# EAGLE library part RXM-GPS-RM (library linxgps)
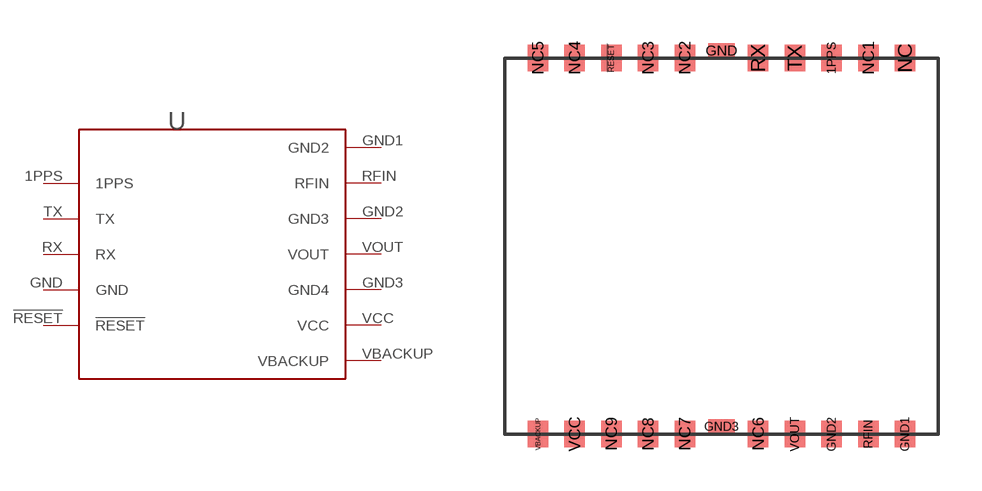
[diagram p0: symbol with the pads of RXM-GPS-RM; footprint RXM-GPS-RM]

Designator prefix -

## RXM-GPS-RM  [RXM-GPS-RM]
1PPS  1PPS
!RESET  !RESET
GND  GND
GND1  GND2
GND2  GND3
GND3  GND4
RFIN  RFIN
RX  RX
TX  TX
VBACKUP  VBACKUP
VCC  VCC
VOUT  VOUT

## Footprint RXM-GPS-RM (pad centres in mm)
smd 0.711 x 0.914: 1PPS 11.303,13.005; !RESET 3.683,13.005; GND1 13.843,0; GND2 11.303,0; NC 13.843,13.005; NC1 12.573,13.005; NC2 6.223,13.005; NC3 4.953,13.005; NC4 2.413,13.005; NC5 1.143,13.005; NC6 8.763,0; NC7 6.223,0; NC8 4.953,0; NC9 3.683,0; RFIN 12.573,0; RX 8.763,13.005; TX 10.033,13.005; VBACKUP 1.143,0; VCC 2.413,0; VOUT 10.033,0
smd 0.914 x 0.508: GND 7.493,13.259; GND3 7.493,0.254